# EAGLE library part LTP-3784E (library eagle-library-engr-245-s22)
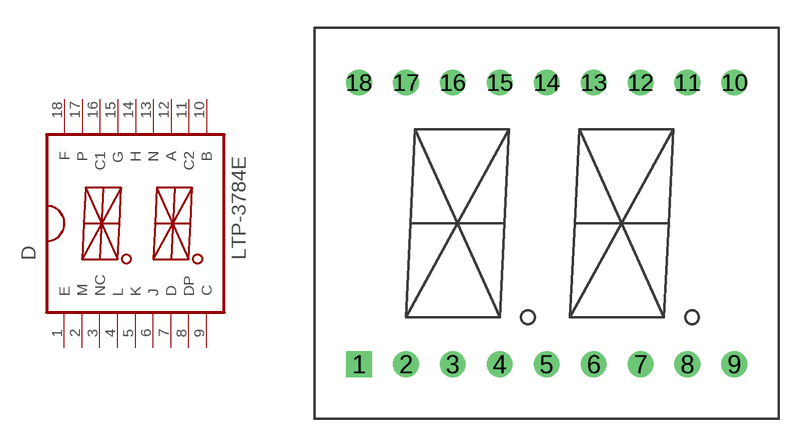
[diagram p22: symbol with the pads of LTP-3784E; footprint LTP-3784E]

Designator prefix D

## LTP-3784E  [LTP-3784E]
1  E  out
2  M  in
3  NC  out
4  L  out
5  K  pwr
6  J  pas
7  D  out
8  DP  in
9  C  out
10  B  out
11  C2  out
12  A  out
13  N  in
14  H  pas
15  G  out
16  C1  in
17  P  in
18  F  out

## Footprint LTP-3784E (pad centres in mm)
drill 0.889 square: 1 0,0
drill 0.889: 2 2.54,0; 3 5.08,0; 4 7.62,0; 5 10.16,0; 6 12.7,0; 7 15.24,0; 8 17.78,0; 9 20.32,0; 10 20.32,15.24; 11 17.78,15.24; 12 15.24,15.24; 13 12.7,15.24; 14 10.16,15.24; 15 7.62,15.24; 16 5.08,15.24; 17 2.54,15.24; 18 0,15.24